# EAGLE library part FH12-12S-0.5S (library charlespax)
0.5mm Pitch Connectors For FPC/FFC Source: Data sheet <http://www.hirose.co.jp/cataloge_hp/e58605370.pdf>
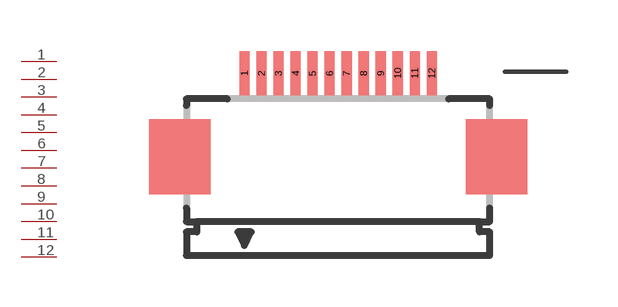
[diagram p3: symbol with the pads of FH12-12S-0.5SH; footprint FH12-12S-0.5SH]

Designator prefix X

## FH12-12S-0.5SH (MPN: FH12-12S-0.5SH(55); OC_FARNELL: 1324542; OC_NEWARK: 34M6155)  [FH12-12S-0.5SH]
1  P$1
2  P$2
3  P$3
4  P$4
5  P$5
6  P$6
7  P$7
8  P$8
9  P$9
10  P$10
11  P$11
12  P$12

## Footprint FH12-12S-0.5SH (pad centres in mm)
0.5mm Pitch Connectors For FPC/FFC Source: Data sheet <http://www.hirose.co.jp/cataloge_hp/e58605370.pdf>
smd 0.3 x 1.3: 1 -2.75,2.45; 2 -2.25,2.45; 3 -1.75,2.45; 4 -1.25,2.45; 5 -0.75,2.45; 6 -0.25,2.45; 7 0.25,2.45; 8 0.75,2.45; 9 1.25,2.45; 10 1.75,2.45; 11 2.25,2.45; 12 2.75,2.45